# EAGLE library part ATTINY1617/3217 (library m_microcontroller)
ATtiny1617/3217 tinyAVR® 1-series Introduction The ATtiny1617/3217 are members of the tinyAVR® 1-series of microcontrollers, using the AVR® processor with hardware multiplier, running at up to 20 MHz, with 16/32 KB Flash, 2 KB of SRAM, and 256 bytes of EEPROM in a 24-pin package. The tinyAVR® 1-series uses the latest technologies with a flexible, low-power architecture including Event System and SleepWalking, accurate analog features, and Core Independent Peripherals. Capacitive touch interfaces with driven shield are supported with the integrated QTouch® peripheral touch controller. Features CPU AVR® CPU Running at up to 20 MHz Single-cycle I/O access Two-level interrupt controller Two-cycle hardware multiplier Memories 32/16 KB In-system self-programmable Flash memory 256 bytes EEPROM 2 KB SRAM Write/erase endurance: Flash 10,000 cycles EEPROM 100,000 cycles Data retention: 40 years at 55°C System Power-on Reset (POR) Brown-out Detector (BOD) Clock options: 16/20 MHz low-power internal RC oscillator 32.768 kHz Ultra Low-Power (ULP) internal RC oscillator 32.768 kHz external crystal oscillator External clock input Single-pin Unified Program and Debug Interface (UPDI) Three sleep modes: Idle with all peripherals running for immediate wake-up Standby Configurable operation of selected peripherals SleepWalking peripherals Power-Down with full data retention Peripherals One 16-bit Timer/Counter type A (TCA) with dedicated period register and three compare channels Two 16-bit Timer/Counter type B (TCB) with input capture One 12-bit Timer/Counter type D (TCD) optimized for control applications One 16-bit Real-Time Counter (RTC) running from an external crystal, external clock, or internal RC oscillator Watchdog Timer (WDT) with Window mode, with a separate on-chip oscillator One USART with fractional baud rate generator, auto-baud, and start-of-frame detection One master/slave Serial Peripheral Interface (SPI) One Two-Wire Interface (TWI) with dual address match Philips I2C compatible Standard mode (Sm, 100 kHz) Fast mode (Fm, 400 kHz) Fast mode plus (Fm+, 1 MHz) Three Analog Comparators (AC) with low propagation delay Two 10-bit 115 ksps Analog-to-Digital Converters (ADC) Three 8-bit Digital-to-Analog Converters (DAC) with one external channel Multiple voltage references (VREF): 0.55V 1.1V 1.5V 2.5V 4.3V Event System (EVSYS) for CPU independent and predictable inter-peripheral signaling Configurable Custom Logic (CCL) with two programmable look-up tables Automated CRC memory scan Peripheral Touch Controller (PTC) Capacitive touch buttons, sliders, wheels and 2D surfaces Wake-up on touch Driven shield for improved moisture and noise handling performance Up to 14 self capacitance channels Up to 49 mutual capacitance channels External interrupt on all general purpose pins I/O and Packages: 22 programmable I/O lines 24-pin VQFN 4x4 mm Temperature Ranges: -40°C to 105°C -40°C to 125°C Speed Grades: 0-5 MHz @ 1.8V - 5.5V 0-10 MHz @ 2.7V - 5.5V 0-20 MHz @ 4.5V - 5.5V Octopart Search <https://octopart.com/search?q=attiny3217-*> Added 2020-05-21
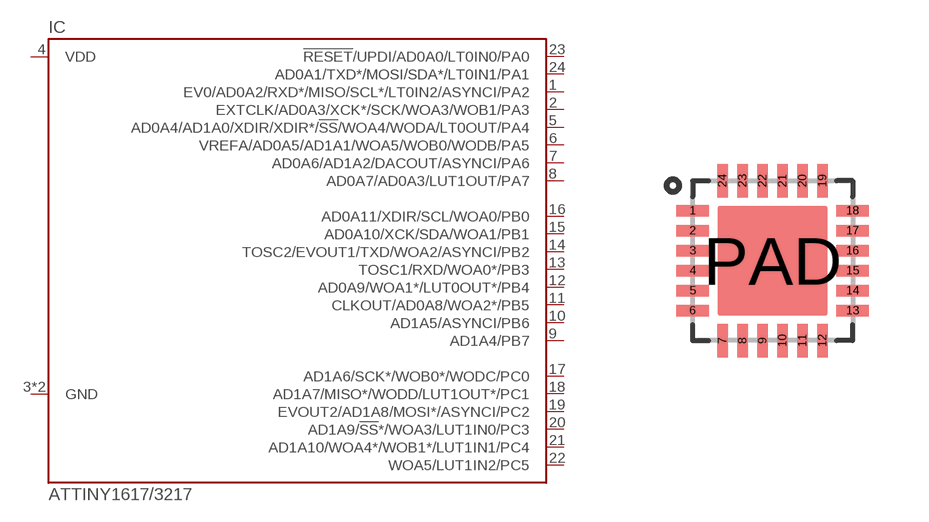
[diagram p3: symbol with the pads of VQFN24; footprint VQFN24]

Designator prefix IC

## ATTINY1617/3217-M* (MANUF: Microchip; PARTNUM: ATtiny3217-M*; VALUE: ATtiny3217)  [VQFN24]
1  EV0/AD0A2/RXD*/MISO/SCL*/LT0IN2/ASYNCI/PA2  pas
2  EXTCLK/AD0A3/XCK*/SCK/WOA3/WOB1/PA3  pas
3  GND  pas
4  VDD  pas
5  AD0A4/AD1A0/XDIR/XDIR*/!SS!/WOA4/WODA/LT0OUT/PA4  pas
6  VREFA/AD0A5/AD1A1/WOA5/WOB0/WODB/PA5  pas
7  AD0A6/AD1A2/DACOUT/ASYNCI/PA6  pas
8  AD0A7/AD0A3/LUT1OUT/PA7  pas
9  AD1A4/PB7  pas
10  AD1A5/ASYNCI/PB6  pas
11  CLKOUT/AD0A8/WOA2*/PB5  pas
12  AD0A9/WOA1*/LUT0OUT*/PB4  pas
13  TOSC1/RXD/WOA0*/PB3  pas
14  TOSC2/EVOUT1/TXD/WOA2/ASYNCI/PB2  pas
15  AD0A10/XCK/SDA/WOA1/PB1  pas
16  AD0A11/XDIR/SCL/WOA0/PB0  pas
17  AD1A6/SCK*/WOB0*/WODC/PC0  pas
18  AD1A7/MISO*/WODD/LUT1OUT*/PC1  pas
19  EVOUT2/AD1A8/MOSI*/ASYNCI/PC2  pas
20  AD1A9/!SS!*/WOA3/LUT1IN0/PC3  pas
21  AD1A10/WOA4*/WOB1*/LUT1IN1/PC4  pas
22  WOA5/LUT1IN2/PC5  pas
23  !RESET!/UPDI/AD0A0/LT0IN0/PA0  pas
24  AD0A1/TXD*/MOSI/SDA*/LT0IN1/PA1  pas
PAD  GND  pas

## Footprint VQFN24 (pad centres in mm)
VQFN24 4mm × 4mm Very Thin Plastic Quad Flat, No Lead Package (RLB) Based on Microchip datasheet 40001999C, drawings C04-21386 Rev A, C04-21386 Rev A, C04-23386 Rev A
smd 0.85 x 0.3: 1 -2,1.25; 2 -2,0.75; 3 -2,0.25; 4 -2,-0.25; 5 -2,-0.75; 6 -2,-1.25; 13 2,-1.25; 14 2,-0.75; 15 2,-0.25; 16 2,0.25; 17 2,0.75; 18 2,1.25
smd 0.3 x 0.85: 7 -1.25,-2; 8 -0.75,-2; 9 -0.25,-2; 10 0.25,-2; 11 0.75,-2; 12 1.25,-2; 19 1.25,2; 20 0.75,2; 21 0.25,2; 22 -0.25,2; 23 -0.75,2; 24 -1.25,2
smd 2.75 x 2.75: PAD 0,0